# Altium footprint library 贴片LED.PcbLib: 6 footprints
Each footprint in its own frame and in the unit in brackets; x right, y up, seen from the top. Pads: shape width x height; smd on the part's side, far side on the other; paste and mask are expansions set on the pad; w line width, h text height; cw(c..) or ccw(c..) is an arc to the next point about the centre after c.
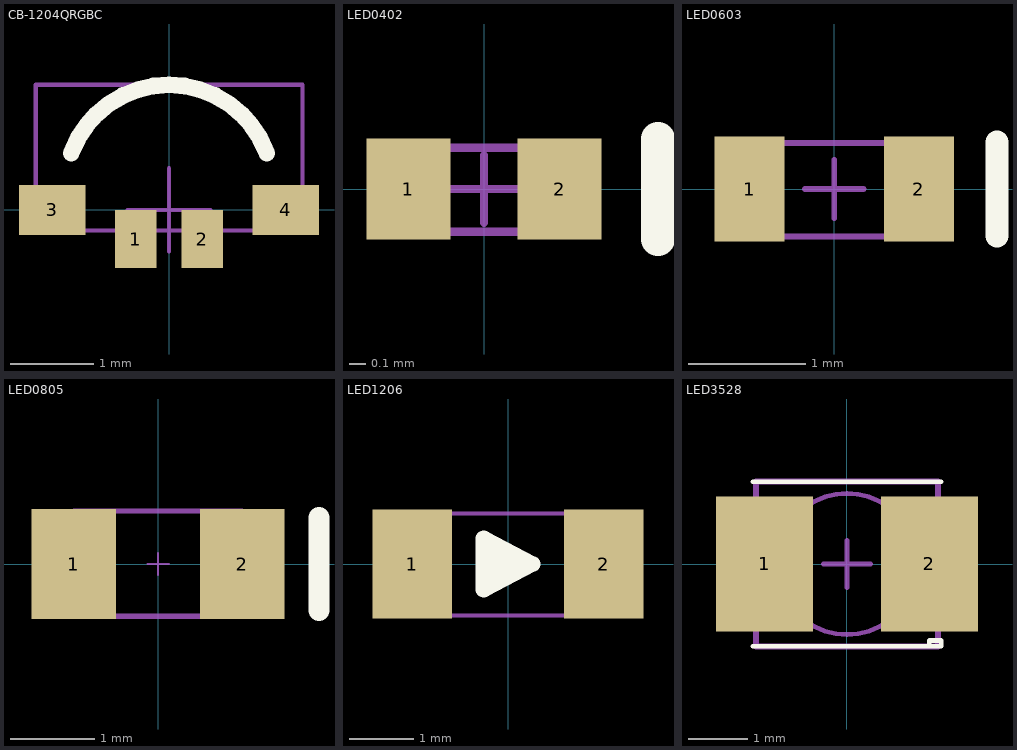
[diagram p0: the footprints below, top view; thin cyan lines are the x and y axes]

## CB-1204QRGBC [mm] "贴片侧面发光三色LED"
height 1
pads (4):
  rect 0.5x0.7 smd: 1(-0.4,-0.35) 2(0.4,-0.35)
  rect 0.8x0.6 smd: 3(-1.4,0) 4(1.4,0)
Top Overlay:
  lines w0.2: -1.175,0.678 cw(c0,0.25) 1.175,0.678
Mechanical 13:
  lines w0.05: -1.6,-0.25 1.6,-0.25 1.6,1.5 -1.6,1.5 -1.6,-0.25
Mechanical 15:
  lines w0.05: -0.5,0 0.5,0 ; 0,-0.5 0,0.5
3D body: height 1.05, standoff 0.05, extent -1.6,-0.25 1.6,1.5

## LED0402 [mm] "贴片LED"
height 0.35
pads (2):
  rect 0.5x0.6 smd: 1(-0.45,0) 2(0.45,0)
Top Overlay:
  lines w0.2: 1.035,-0.3 1.035,0.3
Mechanical 13:
  lines w0.05: -0.505,-0.254 0.505,-0.254 0.505,0.246 -0.505,0.246 -0.505,-0.254
Mechanical 15:
  lines w0.05: -0.2,0 0.2,0 ; 0,-0.2 0,0.2
3D body: height 0.45, standoff 0, extent -0.505,-0.254 0.505,0.246

## LED0603 [mm] "0603 贴片LED"
height 0.6
pads (2):
  rect 0.6x0.9 smd: 1(-0.725,0) 2(0.725,0)
Top Overlay:
  lines w0.2: 1.394,-0.4 1.394,0.4
Mechanical 13:
  lines w0.05: -0.8,-0.406 -0.8,0.394 0.8,0.394 0.8,-0.406 -0.8,-0.406
Mechanical 15:
  lines w0.05: -0.25,0 0.25,0 ; 0,-0.25 0,0.25
3D body: height 0.6, standoff 0, extent -0.8,-0.406 0.8,0.394

## LED0805 [mm] "0805 LED"
height 0.9
pads (2):
  rect 1x1.3 smd: 1(-1,0) 2(1,0)
Top Overlay:
  lines w0.254: 1.91,-0.55 1.91,0.55
Mechanical 13:
  lines w0.05: -1,-0.615 -1,0.635 1,0.635 1,-0.615 -1,-0.615
Mechanical 15:
  lines w0.025: -0.127,0 0.127,0 ; 0,-0.127 0,0.127
  lines w0.05: -1,-0.625 1,-0.625 1,0.625 -1,0.625 -1,-0.625
3D body: height 0.9, standoff 0, extent -1,-0.615 1,0.635

## LED1206 [mm] "1206 LED"
height 0.75
pads (2):
  rect 1.25x1.7 smd: 1(-1.5,0) 2(1.5,0)
Top Overlay:
  lines w0.254: -0.381,-0.152 -0.143,-0.152 ; -0.381,0 0.071,0 ; -0.381,0.152 -0.174,0.152 ; -0.381,-0.4 0.381,0 -0.381,0.4 -0.381,-0.4
Mechanical 13:
  lines w0.05: -1.6,-0.813 1.6,-0.813 1.6,0.787 -1.6,0.787 -1.6,-0.813
Mechanical 15:
  lines w0.025: -0.2,0 0.2,0 ; 0,-0.2 0,0.2
  lines w0.05: -1.6,-0.8 -1.6,0.8 1.6,0.8 1.6,-0.8 -1.6,-0.8
3D body: height 0.75, standoff 0, extent -1.6,-0.813 1.6,0.787

## LED3528 [mm] "3528封装LED"
height 1.9
pads (2):
  rect 1.65x2.3 smd: 1(-1.4,0) 2(1.4,0)
Top Overlay:
  lines w0.08: -1.6,-1.4 1.6,-1.4 ; -1.6,1.4 1.6,1.4 ; 1.4,-1.4 1.4,-1.3 1.6,-1.3 ; 1.6,-1.4 1.6,-1.3 ; 1.6,-1.4 1.6,-1.3
Mechanical 15:
  circle w0.08: c0,0 r1.2
  lines w0.08: -0.497,1.092 cw(c0,0) 0.497,1.092 ; -0.4,0 0.4,0 ; 0,-0.4 0,0.4
  lines w0.1: -1.55,-1.396 -1.55,1.4 1.55,1.4 1.55,-1.4 -1.546,-1.4 -1.55,-1.396